# Altium schematic symbol library TPS5405DR.SchLib: 1 symbol
Pins are listed as number, name and electrical type; pins without a type are passive.

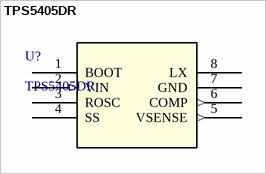
[diagram p0: symbol TPS5405DR]

## TPS5405DR
designator U?
Imported; Vendor: Texas Instruments; Built_By: EMA_UL_Team; C: Copyright (C) 2015 Accelerated Designs. All rights reserved; Manufacturer_Part_Number: TPS5405DR; RefDes: RefDes; Type: DEV; Value: Value
footprint D8
pins: 1 BOOT, 2 VIN (in), 3 ROSC, 4 SS, 5 VSENSE (out), 6 COMP (out), 7 GND (power), 8 LX